# EAGLE library part ROTARY_SWITCH (library SP8T_Rotary)
Check availability <https://pricing.snapeda.com/parts/KC15A9.501NPF/E-Switch/view-part?ref=eda>
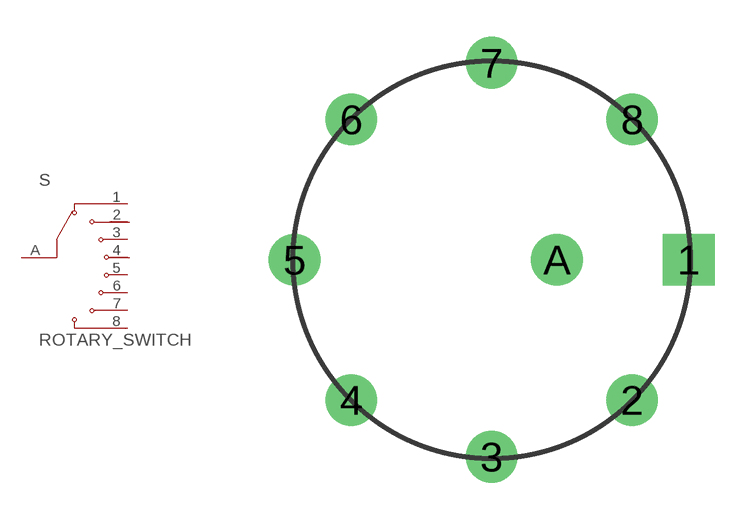
[diagram p0: symbol with the pads of ROTARY; footprint ROTARY]

Designator prefix S

## ROTARY_SWITCH  [ROTARY]
1  1  pas
2  2  pas
3  3  pas
4  4  pas
5  5  pas
6  6  pas
7  7  pas
8  8  pas
A  A  pas

## Footprint ROTARY (pad centres in mm)
drill 1.4 square: 1 8,0
drill 1.4: 2 5.7,-5.7; 3 0,-8; 4 -5.7,-5.7; 5 -8,0; 6 -5.7,5.7; 7 0,8; 8 5.7,5.7; A 2.65,0